# EAGLE library part STSPIN250 (library U-ST-STSPIN250-Brushed-DC-controller)
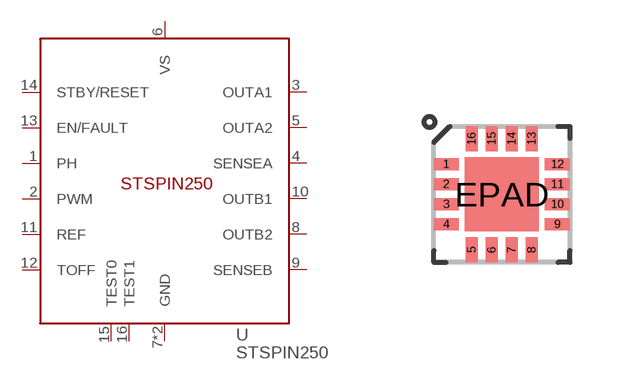
[diagram p0: symbol with the pads of VFQPN; footprint VFQPN]

Designator prefix U

## STSPIN250  [VFQPN]
1  PH  in
2  PWM  in
3  OUTA1  out
4  SENSEA  out
5  OUTA2  out
6  VS  pwr
7  GND  pwr
8  OUTB2  out
9  SENSEB  out
10  OUTB1  out
11  REF  pas
12  TOFF  pas
13  EN/FAULT
14  STBY/RESET
15  TEST0
16  TEST1
EPAD  GND  pwr

## Footprint VFQPN (pad centres in mm)
smd 0.63 x 0.3: 1 -1.39,0.75; 2 -1.39,0.25; 3 -1.39,-0.25; 4 -1.39,-0.75; 9 1.39,-0.75; 10 1.39,-0.25; 11 1.39,0.25; 12 1.39,0.75
smd 0.3 x 0.63: 5 -0.75,-1.39; 6 -0.25,-1.39; 7 0.25,-1.39; 8 0.75,-1.39; 13 0.75,1.39; 14 0.25,1.39; 15 -0.25,1.39; 16 -0.75,1.39
smd 1.85 x 1.85: EPAD 0,0